# Altium schematic symbol library Miscellaneous.SchLib: 25 symbols
Pins are listed as number, name and electrical type; pins without a type are passive.

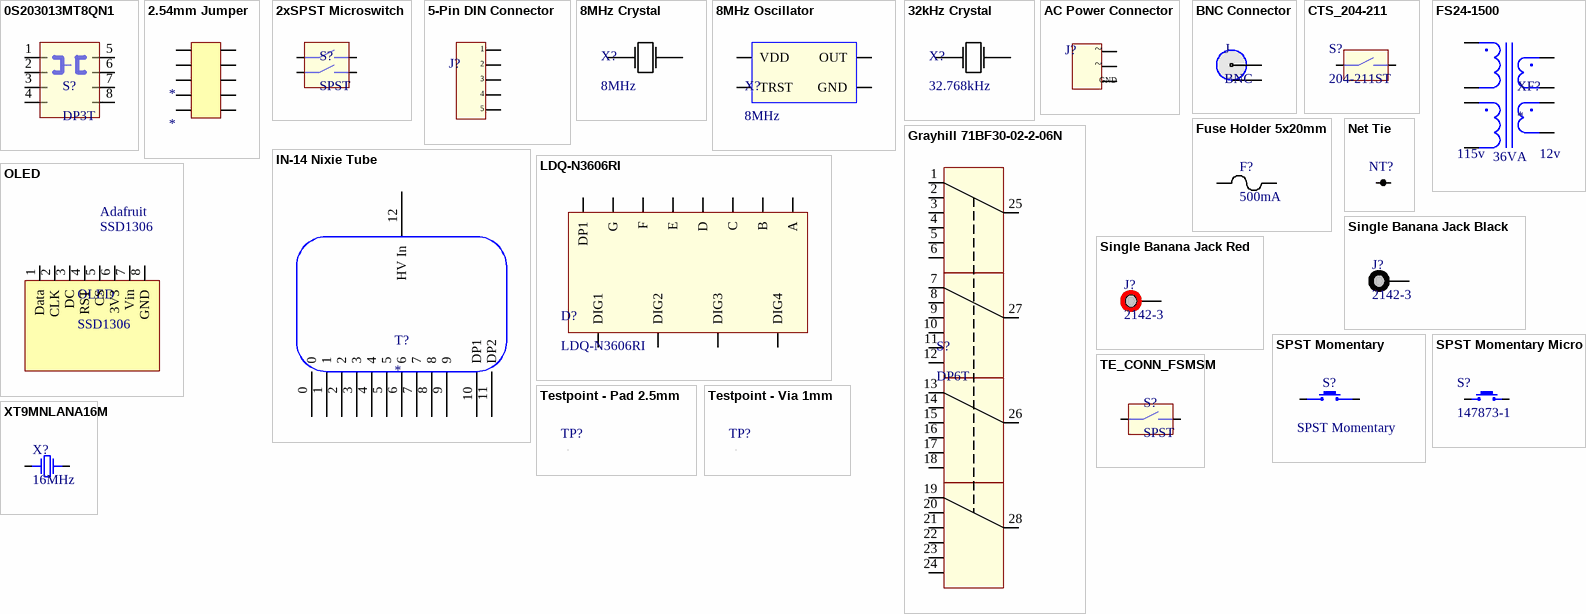
[diagram p0: symbols 0S203013MT8QN1 to XT9MNLANA16M]

## 0S203013MT8QN1
designator S?, comment DP3T
DP3T Slide Switch; MFG: CK; MFG_PN: 0S203013MT8QN1; CURRENT: 100mA; SW_TYPE: DP3T
footprint OS203013MT8QN1 (DP3T Slide Switch)
footprint SSD1306 (Footprint not found)
footprint OLED-header
pins: 1, 2, 3, 4, 5, 6, 7, 8

## 2.54mm Jumper
designator *
MFG_PN: 961210-6404-AR; MFG: 3M; ROWS: 2; POSITION: 10
footprint 2.54mm Jumper 2x5 pin
pins: 1, 2, 3, 4, 5, 6, 7, 8, 9, 10

## 2xSPST Microswitch
designator S?, comment SPST
SPST Microswitch Array (2 Switches); MFG: CTS; MFG_PN: 219-2MST; TYPE: SPST
footprint CTS_219-2MST (2 Pos Microswitch)
pins: 1 (power), 2 (power), 3 (power), 4 (power)

## 5-Pin DIN Connector
designator J?, comment 5-Pin DIN  (value not drawn)
MFG: Kobiconn; MFG_PN: 161-0504-E
footprint 5-Pin DIN
pins: 1, 2, 3, 4, 5

## 8MHz Crystal
designator X?, comment 8MHz
8MHz Crystal; MFG_PN: ABMM2-8.000MHZ-E2-T; MFG: ABRACON; CLOAD: 18pF; FREQ: 8MHz
footprint ABMM2-8.000MHZ-E2-T
pins: 1, 2 hidden, 3, 4 hidden

## 8MHz Oscillator
designator X?, comment 8MHz
8MHz Crystal Oscillator; MFG: ABRACON; MFG_PN: ASCO-8.000MHZ-EK-T3; FREQ: 8MHz
footprint ASCO-EK-T3
pins: 1 TRST, 2 VDD, 3 GND, 4 OUT

## 32kHz Crystal
designator X?, comment 32.768kHz
32kHz Crystal; MFG_PN: ST3215SB32768H5HPWAA; MFG: AVX/KYOCERA; CLOAD: 12.5pF; FREQ: 32.768kHz
footprint ST3215SB32768H5HPWAA (32kHz Crystal)
pins: 1, 2

## AC Power Connector
designator J?, comment 703W-00/54  (value not drawn)
MFG: QUALTEK; AC_CURRENT: 15A; MFG_PN: 703W-00/54
footprint AC_POWER_PLUG
pins: 1 HOT, 2 NEUTRAL, 3 SAFETY_GND
text: ~; GND

## BNC Connector
designator J, comment BNC
MFG: VITELEC; MFG_PN: VBI211
footprint BNC Connector
pins: 1, 2

## CTS_204-211
designator S?, comment 204-211ST
DPST Micro Dip Switch; MFG: CTS; MFG_PN: 204-211ST
footprint CTS204-211ST (SPST DIP Switch)
pins: 1 (power), 2 (power)

## FS24-1500
designator XF?  PRI_VOLTAGE: 115v  SEC_VOLTAGE: 12v  POWER: 36VA
115:115 - 12:12 Transformer; MFG: Triad Magnetics; MFG_PN: FS24-1500
footprint FS24-1500 (115:115 - 24:24 xfrmr)
pins: 1 (power), 2 (power), 3 (power), 4 (power), 5 (power), 6 (power), 7 (power), 8 (power)

## Fuse Holder 5x20mm
designator F?, comment 500mA
5x20mm Fuse and Holder; MFG: Eaton; MFG_PN: BK/GMC-500-R; AC_VOLTAGE: 250v; MFG2_PN: 31.8201; TRIP_CURRENT: 500mA; MFG2: Schurter
footprint FuseHolder_5x20mm
pins: 1, 2

## Grayhill 71BF30-02-2-06N
designator S?, comment DP6T
2-Deck, DP6T Switch; MFG: GRAYHILL; MFG_PN: 71BF30-02-2-06N; TYPE: DP6T
footprint GRAYHILL 71BF30-02-2-06N (Two deck, DP6T Rotary Switch)
pins: 1, 2, 3, 4, 5, 6, 7, 8, 9, 10, 11, 12, 13, 14, 15, 16, 17, 18, 19, 20, 21, 22, 23, 24, 25, 26, 27, 28

## IN-14 Nixie Tube
designator T?
footprint IN-14 Nixie Tube
pins: 0, 1, 2, 3, 4, 5, 6, 7, 8, 9, 10 DP1, 11 DP2, 12 HV In

## LDQ-N3606RI
designator D?
4-Digit 7-Segment Display; MFG: LUMEX; MFG_PN: LDQ-N3606RI
footprint LDQ-N3606RI (4 Digit - 7 Segment Display)
pins: 1 E, 2 D, 3 DP1, 4 C, 5 G, 6 DIG4, 7 B, 8 DIG3, 9 DIG2, 10 F, 11 A, 12 DIG1

## Net Tie
designator NT?  (value not drawn)
footprint Net Tie
pins: 1, 2

## OLED
designator OLED, comment SSD1306  MFG: Adafruit
OLED display; MFG_PN: SSD1306
footprint OLED
pins: 1 Data, 2 CLK, 3 DC, 4 RST, 5 CS, 6 3V3, 7 Vin, 8 GND

## Single Banana Jack Black
designator J?, comment 2142-3
Single Banana Jack; MFG: POMONA; CURRENT: 5A; MFG_PN: 2142-3
footprint POMONA_2142 (Single)
pins: 1

## Single Banana Jack Red
designator J?, comment 2142-3
Dual Banana Jack Red; MFG: POMONA; CURRENT: 5A; MFG_PN: 2142-3
footprint POMONA_2142 (Single)
pins: 1

## SPST Momentary
designator S?
SPST Momentary Switch; MFG: TE Connectivity; MFG_PN: 1571563-1; TYPE: SPST Momentary
footprint TECONN_1571563 (SPST_Momentary)
pins: 1, 2, 3, 4

## SPST Momentary Micro
designator S?, comment 147873-1
Micro SPST Momentary Switch; MFG: TE CONNECTIVITY; LOAD: NL; CURRENT: 50mA; VOLTAGE: 24v; MFG_PN: 147873-1
footprint TECONN_14783-1
pins: 1, 2

## TE_CONN_FSMSM
designator S?, comment SPST
SPST Microswitch; MFG: TE_CONN; MFG_PN: FSMSM; CURRENT: 50mA; VOLTAGE_DC: 24v; TYPE: SPST
footprint SW_TECONN_FSMSM (Single SMD SPST Switch)
pins: 1, 2

## Testpoint - Pad 2.5mm
designator TP?, comment TP  (value not drawn)
footprint TESTPOINT - 2.5mm Round Pad
pins: 0

## Testpoint - Via 1mm
designator TP?, comment TP  (value not drawn)
footprint 1mm Via
pins: 1

## XT9MNLANA16M
designator X?, comment 16MHz
16MHz Crystal; MFG: Vishay; MFG_PN: XT9MNLANA16M; FREQ: 16MHz
footprint HC-49/US (Crystal)
pins: 1 (power), 2 (power)